# EAGLE library part SMHDR-1X7 (library ipod_lib)
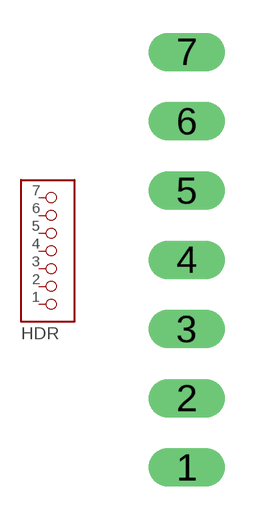
[diagram p1: symbol with the pads of SMHDR-1X7; footprint SMHDR-1X7]

Designator prefix HDR

## SMHDR-1X7  [SMHDR-1X7]
1  P$1  pas
2  P$2  pas
3  P$3  pas
4  P$4  pas
5  P$5  pas
6  P$6  pas
7  P$7  pas

## Footprint SMHDR-1X7 (pad centres in mm)
drill 0.6 long: 1 0,0; 2 0,2; 3 0,4; 4 0,6; 5 0,8; 6 0,10; 7 0,12